# Altium schematic symbol library switch_01.SchLib: 1 symbol
Pins are listed as number, name and electrical type; pins without a type are passive.

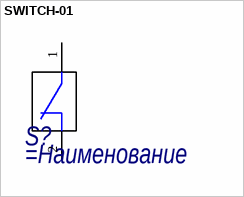
[diagram p0: symbol SWITCH-01]

## SWITCH-01
designator S?
=Описание
pins: 1, 2